# Altium schematic symbol library comm sub.SchLib: 89 symbols (part 2 of 4)
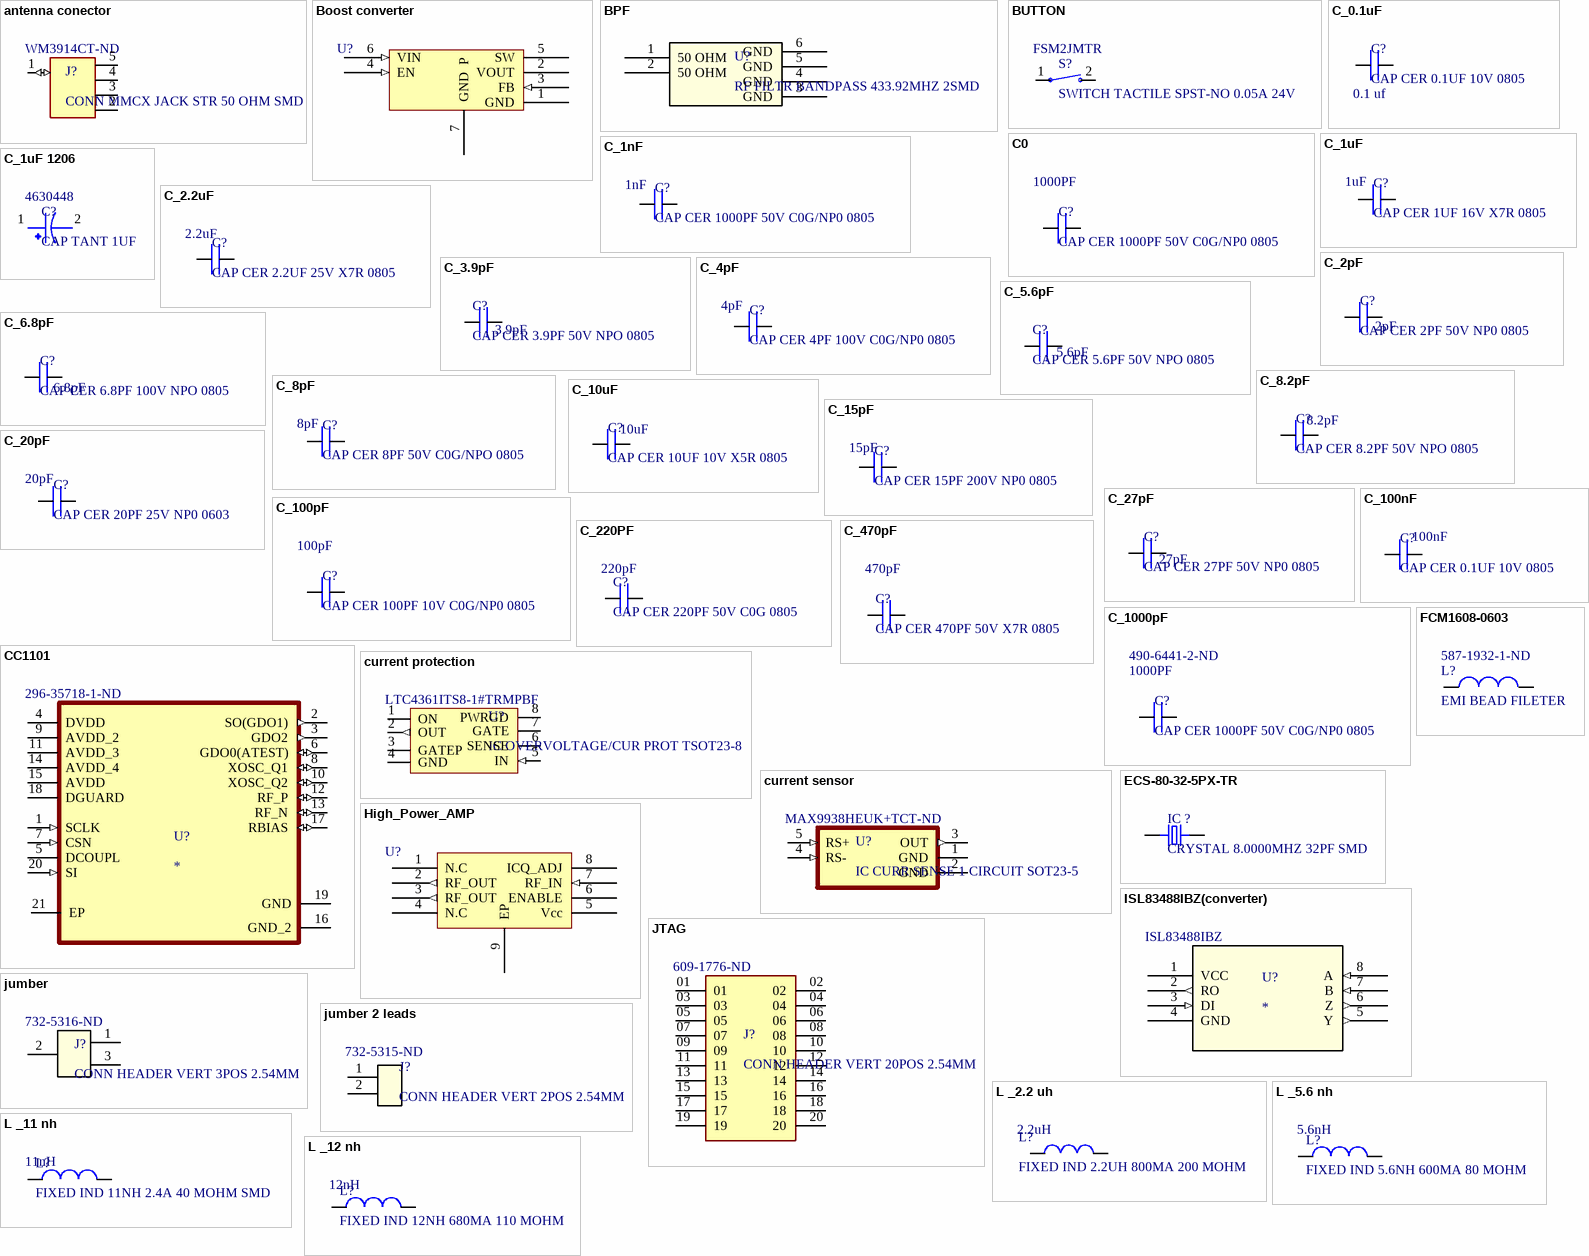
[diagram p3: symbols antenna conector to L _12 nh]

## jumber 2 leads
designator J?, comment CONN HEADER VERT 2POS 2.54MM  Supplier Part Number 1: 732-5315-ND
Connector Header Through Hole 2 position 0.100" (2.54mm); Manufacturer: Wurth Electronics; Manufacturer Part Number: 61300211121; Description: WURTH ELEKTRONIK - 61300211121 - Pin Header, Vertical, Board-to-Board, 2.54 mm, 1 Rows, 2 Contacts, Through Hole Straight; Current Rating: 3A; Voltage Rating: 250V; Number of Positions: 2; Gender: Male; Connector Type: Male Pin; Pitch: 0.1inch; Supplier 1: Digi-Key; RoHS: Yes; Stock 1: 60555; Pricing 1: 1 = 0.13000, 10 = 0.10600, 25 = 0.08800, 50 = 0.07400, 100 = 0.06700, 1000 = 0.06100 (USD); Mount: Through Hole; Contact Plating: Gold; Housing Material: PBT; Contact Material: Copper Alloy,Copper; Color: Black; Min Operating Temperature: -40°C; Max Operating Temperature: 125°C; Number of Rows: 1; Contact Gender: Male; Packaging: Bulk; Termination: Through Hole; Number of Contacts: 2; Contact Mating Length: 0.236inch; REACH SVHC: Unknown; Lead Free: Lead Free; ComponentLink1URL: https://datasheet.ciiva.com/13619/6130xx11121-48870-13619345.pdf?src-supplier=Mouser; ComponentLink1Description: https://datasheet.ciiva.com/13619/6130xx11121-48870-13619345.pdf?src-supplier=Mouser
footprint jumber 2
pins: 1, 2

## L _2.2 uh
designator L?, comment FIXED IND 2.2UH 800MA 200 MOHM  Inductance: 2.2uH
2.2µH Shielded Multilayer Inductor 800mA 200mOhm Max 0805 (2012 Metric); Manufacturer: Taiyo Yuden; Manufacturer Part Number: BRC2012T2R2MD; Core Material: Ferrite; Inductance Tolerance: 20%; Self Resonant Frequency: 350MHz; Current Rating: 1A; Saturation Current: 1.1A; Shielding: Unshielded; DC Resistance (DCR): 143mR; Test Frequency: 1MHz; ComponentLink1URL: https://datasheet.ciiva.com/6748/brc2012t2r2md-ss-6748784.pdf?src-supplier=Newark; ComponentLink1Description: https://datasheet.ciiva.com/6748/brc2012t2r2md-ss-6748784.pdf?src-supplier=Newark; ComponentLink2URL: https://datasheet.ciiva.com/25607/0900766b810b3c54-25607837.pdf?src-supplier=RSComponents; ComponentLink2Description: https://datasheet.ciiva.com/25607/0900766b810b3c54-25607837.pdf?src-supplier=RSComponents; ComponentLink3URL: https://datasheet.ciiva.com/26870/getdatasheetpartid-639072-26870958.pdf?src-supplier=Verical; ComponentLink3Description: https://datasheet.ciiva.com/26870/getdatasheetpartid-639072-26870958.pdf?src-supplier=Verical; ComponentLink4URL: https://datasheet.ciiva.com/1042/wound07-e-1042306.pdf?src-supplier=Digi-Key; ComponentLink4Description: https://datasheet.ciiva.com/1042/wound07-e-1042306.pdf?src-supplier=Digi-Key; ComponentLink5URL: https://datasheet.ciiva.com/1042/wound07-e-1042307.pdf?src-supplier=Digi-Key; ComponentLink5Description: https://datasheet.ciiva.com/1042/wound07-e-1042307.pdf?src-supplier=Digi-Key; ComponentLink6URL: https://datasheet.ciiva.com/1042/wound07-e-1042308.pdf?src-supplier=Digi-Key; ComponentLink6Description: https://datasheet.ciiva.com/1042/wound07-e-1042308.pdf?src-supplier=Digi-Key; Supplier 1: Digi-Key; RoHS: Yes; Stock 1: 117383; Pricing 1: 1 = 0.30000, 10 = 0.26800, 25 = 0.23440, 50 = 0.20100, 100 = 0.18420, 250 = 0.16752, 500 = 0.15744, 1000 = 0.12060 (USD); Mount: Surface Mount; Case/Package: 0805; Number of Pins: 2; Case Code (Metric): 2012; Case Code (Imperial): 0805; Min Operating Temperature: -40°C; Max Operating Temperature: 105°C; Packaging: Tape and Reel; Package Quantity: 2000; Tolerance: 20%; Resistor Type: Wirewound; Max DC Current: 1A; Termination: SMD/SMT; DC Current: 1A; Series: BRC; Length: 2mm; Width: 0.049inch; Height: 1.4mm; Height - Seated (Max): 0.055inch; Depth: 1.45mm; Lead Pitch: 1mm; Radiation Hardening: No; REACH SVHC: Unknown; Military Standard: Not; Lead Free: Lead Free; Halogen Free: Halogen Free; RoHS Compliant: Yes; Supplier Part Number 1: 587-2905-1-ND
footprint 0805 L
pins: 1    , 2

## L _5.6 nh
designator L?, comment FIXED IND 5.6NH 600MA 80 MOHM  Inductance: 5.6nH
5.6nH Unshielded Wirewound Inductor 600mA 80mOhm Max 0805 (2015 Metric); Manufacturer: Murata; Manufacturer Part Number: LQW2BAS5N6J00L; Core Material: Air; Tolerance: 5%; Self Resonant Frequency: 5.9GHz; DC Resistance (DCR): 80mR; Q Factor: 65; Test Frequency: 250MHz; ComponentLink1URL: https://datasheet.ciiva.com/29692/l0075e-29692413.pdf?src-supplier=Digi-Key; ComponentLink1Description: https://datasheet.ciiva.com/29692/l0075e-29692413.pdf?src-supplier=Digi-Key; ComponentLink2URL: https://datasheet.ciiva.com/3080/l0075s0080lqw2ba-3080326.pdf?src-supplier=Avnet; ComponentLink2Description: https://datasheet.ciiva.com/3080/l0075s0080lqw2ba-3080326.pdf?src-supplier=Avnet; ComponentLink3URL: https://datasheet.ciiva.com/1044/l0075s0080lqw2ba-1044700.pdf?src-supplier=Digi-Key; ComponentLink3Description: https://datasheet.ciiva.com/1044/l0075s0080lqw2ba-1044700.pdf?src-supplier=Digi-Key; ComponentLink4URL: https://datasheet.ciiva.com/1044/l0075s0080lqw2ba-1044701.pdf?src-supplier=Digi-Key; ComponentLink4Description: https://datasheet.ciiva.com/1044/l0075s0080lqw2ba-1044701.pdf?src-supplier=Digi-Key; ComponentLink5URL: https://datasheet.ciiva.com/1044/l0075s0080lqw2ba-1044702.pdf?src-supplier=Digi-Key; ComponentLink5Description: https://datasheet.ciiva.com/1044/l0075s0080lqw2ba-1044702.pdf?src-supplier=Digi-Key; Supplier 1: Mouser; RoHS: Yes; Stock 1: 2231; Pricing 1: 1 = 0.25000, 10 = 0.21100, 50 = 0.21100, 100 = 0.14600, 1000 = 0.09500, 10000 = 0.08300 (USD); Mount: Surface Mount; Case/Package: 0805; Weight: 0.000494oz; Case Code (Metric): 2015; Case Code (Imperial): 0806; Min Operating Temperature: -55°C; Max Operating Temperature: 125°C; Shielding: Unshielded; Packaging: Tape and Reel; Package Quantity: 2000; Current Rating: 600mA; Max DC Current: 600mA; Termination: SMD/SMT; Resistor Type: Wirewound; Series: LQW2BA; Length: 0.082inch; Width: 1.5mm; Height: 1.42mm; Height - Seated (Max): 0.06inch; Depth: 1.73mm; Radiation Hardening: No; RoHS Compliant: Yes; Supplier Part Number 1: 81-LQW2BAS5N6J00L
footprint 0805 L
pins: 1    , 2

## L _11 nh
designator L?, comment FIXED IND 11NH 2.4A 40 MOHM SMD  Inductance: 11nH
11nH Unshielded Wirewound Inductor 2.4A 40mOhm Max 0805 (2015 Metric); Manufacturer: Murata; Manufacturer Part Number: LQW2BAN11NJ00L; Core Material: Non-Magnetic; Tolerance: 5%; DC Resistance (DCR): 40mR; Self Resonant Frequency: 4.7GHz; Test Frequency: 250MHz; ComponentLink1URL: https://datasheet.ciiva.com/11799/0900766b8090d800-11799053.pdf?src-supplier=RSComponents; ComponentLink1Description: https://datasheet.ciiva.com/11799/0900766b8090d800-11799053.pdf?src-supplier=RSComponents; ComponentLink2URL: https://datasheet.ciiva.com/6705/l0075s0080lqw15a-00-6705340.pdf?src-supplier=Digi-Key; ComponentLink2Description: https://datasheet.ciiva.com/6705/l0075s0080lqw15a-00-6705340.pdf?src-supplier=Digi-Key; ComponentLink3URL: https://datasheet.ciiva.com/4976/product-4976333.pdf?src-supplier=Mouser; ComponentLink3Description: https://datasheet.ciiva.com/4976/product-4976333.pdf?src-supplier=Mouser; ComponentLink4URL: https://datasheet.ciiva.com/16455/l0075s0080lqw15a-00-16455917.pdf?src-supplier=Future+Electronics; ComponentLink4Description: https://datasheet.ciiva.com/16455/l0075s0080lqw15a-00-16455917.pdf?src-supplier=Future+Electronics; ComponentLink5URL: https://datasheet.ciiva.com/8508/l0075s0080lqw15a-00-8508748.pdf?src-supplier=Avnet; ComponentLink5Description: https://datasheet.ciiva.com/8508/l0075s0080lqw15a-00-8508748.pdf?src-supplier=Avnet; ComponentLink6URL: https://datasheet.ciiva.com/6705/l0075s0080lqw15a-00-6705343.pdf?src-supplier=Digi-Key; ComponentLink6Description: https://datasheet.ciiva.com/6705/l0075s0080lqw15a-00-6705343.pdf?src-supplier=Digi-Key; Supplier 1: Digi-Key; RoHS: Yes; Stock 1: 1300; Pricing 1: 1 = 0.46000, 10 = 0.40200, 25 = 0.37360, 50 = 0.31620, 100 = 0.28750, 250 = 0.27024, 500 = 0.24150, 1000 = 0.19550 (USD); Mount: Surface Mount; Case/Package: 0805; Min Operating Temperature: -55°C; Max Operating Temperature: 125°C; Resistor Type: Wirewound; Packaging: Cut Tape; Current Rating: 2.4A; Shielding: Unshielded; RoHS Compliant: Yes; ComponentLink7URL: http://search.murata.co.jp/Ceramy/image/img/P02/JELF243A-0115.pdf?src-supplier=Digi-Key; ComponentLink7Description: http://search.murata.co.jp/Ceramy/image/img/P02/JELF243A-0115.pdf?src-supplier=Digi-Key; Supplier Part Number 1: 490-16016-1-ND
footprint 0805 L
pins: 1    , 2

## L _12 nh
designator L?, comment FIXED IND 12NH 680MA 110 MOHM  Inductance: 12nH
12nH Unshielded Wirewound Inductor 680mA 110mOhm Max Nonstandard; Manufacturer: Murata; Manufacturer Part Number: LQW2BHN12NJ03L; Core Material: Non-Magnetic,Air; Tolerance: 5%; Self Resonant Frequency: 3.2GHz; Q Factor: 30; DC Resistance (DCR): 110mR; Test Frequency: 100MHz; ComponentLink1URL: https://datasheet.ciiva.com/11801/0900766b80f155f9-11801531.pdf?src-supplier=RSComponents; ComponentLink1Description: https://datasheet.ciiva.com/11801/0900766b80f155f9-11801531.pdf?src-supplier=RSComponents; ComponentLink2URL: https://datasheet.ciiva.com/8508/l0075s0081lqw2bh-03-8508521.pdf?src-supplier=Avnet; ComponentLink2Description: https://datasheet.ciiva.com/8508/l0075s0081lqw2bh-03-8508521.pdf?src-supplier=Avnet; ComponentLink3URL: https://datasheet.ciiva.com/14124/qilqw2bh-data-e-14124599.pdf?src-supplier=Distrelec; ComponentLink3Description: https://datasheet.ciiva.com/14124/qilqw2bh-data-e-14124599.pdf?src-supplier=Distrelec; Supplier 1: Digi-Key; RoHS: Yes; Stock 1: 18; Pricing 1: 1 = 0.44000, 10 = 0.39000, 25 = 0.34120, 50 = 0.29240, 100 = 0.26810, 250 = 0.24376, 500 = 0.22912, 1000 = 0.17550 (USD); Mount: Surface Mount; Case/Package: 0805; Weight: 0.000317oz; Case Code (Metric): 2012; Case Code (Imperial): 0805; Min Operating Temperature: -40°C; Max Operating Temperature: 85°C; Package Quantity: 2000; Packaging: Tape and Reel; Current Rating: 680mA; Shielding: Unshielded; Resistor Type: Wirewound; Max DC Current: 680mA; Termination: SMD/SMT; DC Current: 680mA; Series Resistance: 110mR; Series: LQW2BHN_03; Length: 0.079inch; Width: 0.059inch; Height: 1.7mm; Height - Seated (Max): 0.07inch; Depth: 1.7mm; Radiation Hardening: No; Military Standard: Not; RoHS Compliant: Yes; Supplier Part Number 1: 490-11780-1-ND
footprint 0805 L
pins: 1    , 2

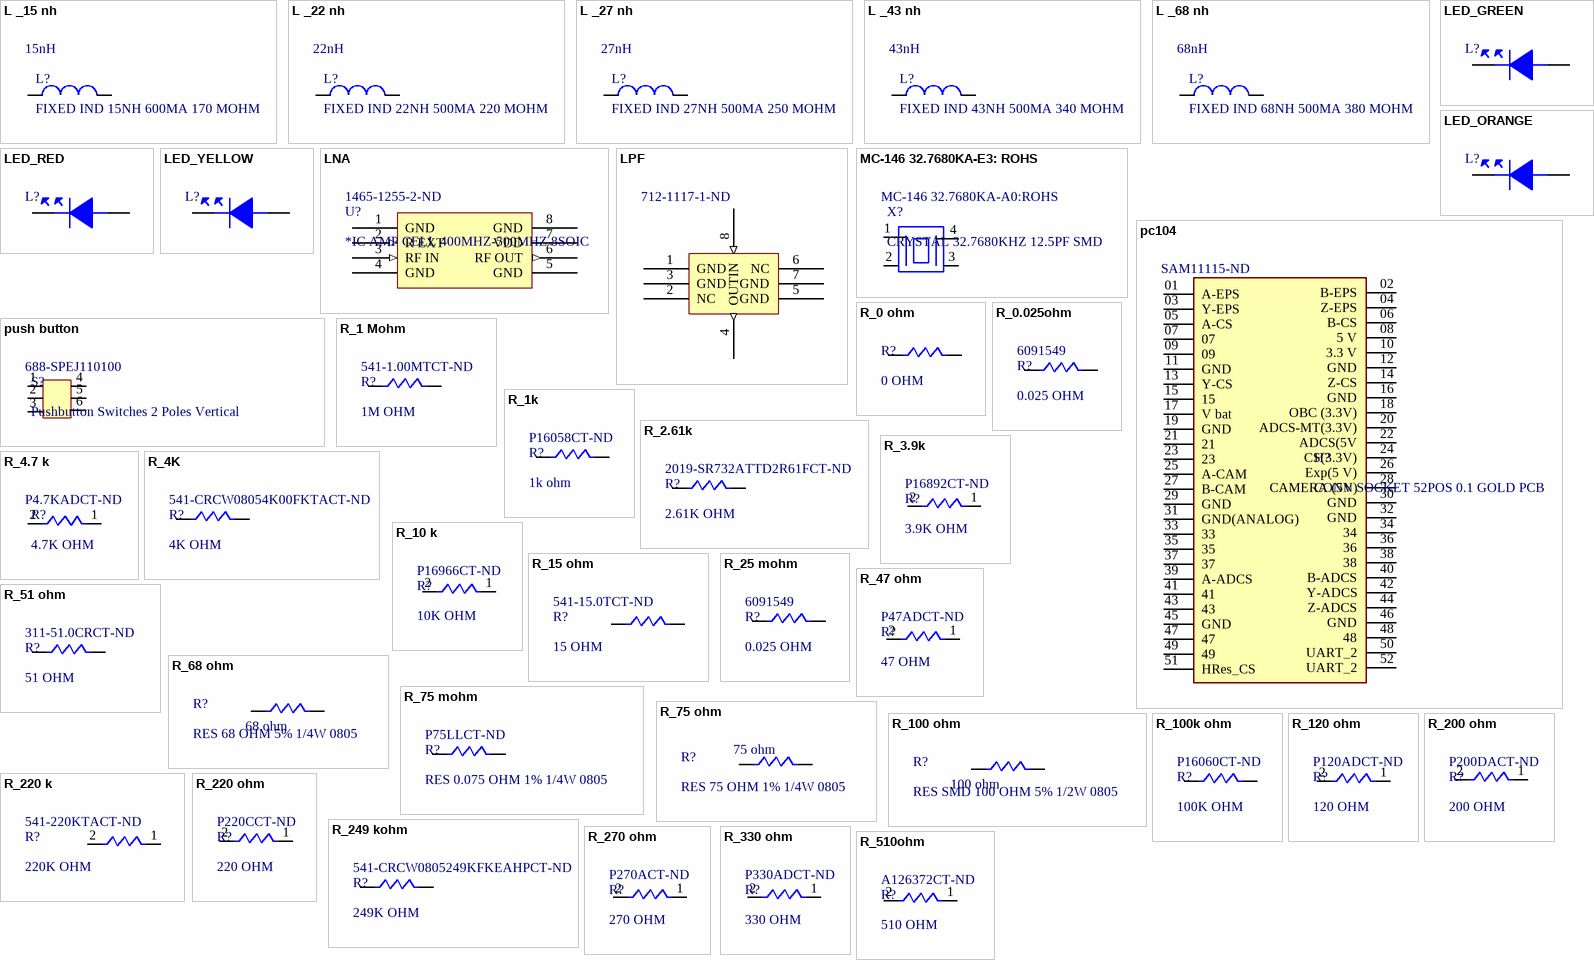
[diagram p1: symbols L _15 nh to R_510ohm]

## L _15 nh
designator L?, comment FIXED IND 15NH 600MA 170 MOHM  Inductance: 15nH
15nH Unshielded Wirewound Inductor 600mA 170mOhm Max 0805 (2015 Metric); Manufacturer: Murata; Manufacturer Part Number: LQW2BAS15NJ00L; Core Material: Air; Tolerance: 5%; Q Factor: 50; Self Resonant Frequency: 3.2GHz; DC Resistance (DCR): 170mR; Test Frequency: 250MHz; ComponentLink1URL: https://datasheet.ciiva.com/1044/l0075s0080lqw2ba-1044710.pdf?src-supplier=Digi-Key; ComponentLink1Description: https://datasheet.ciiva.com/1044/l0075s0080lqw2ba-1044710.pdf?src-supplier=Digi-Key; ComponentLink2URL: https://datasheet.ciiva.com/1044/l0075s0080lqw2ba-1044711.pdf?src-supplier=Digi-Key; ComponentLink2Description: https://datasheet.ciiva.com/1044/l0075s0080lqw2ba-1044711.pdf?src-supplier=Digi-Key; ComponentLink3URL: https://datasheet.ciiva.com/1044/l0075s0080lqw2ba-1044709.pdf?src-supplier=Digi-Key; ComponentLink3Description: https://datasheet.ciiva.com/1044/l0075s0080lqw2ba-1044709.pdf?src-supplier=Digi-Key; ComponentLink4URL: https://datasheet.ciiva.com/3080/l0075s0080lqw2ba-3080313.pdf?src-supplier=Avnet; ComponentLink4Description: https://datasheet.ciiva.com/3080/l0075s0080lqw2ba-3080313.pdf?src-supplier=Avnet; Supplier 1: Digi-Key; RoHS: Yes; Stock 1: 1878; Pricing 1: 1 = 0.23000, 10 = 0.20700, 25 = 0.18400, 50 = 0.15640, 100 = 0.13800, 250 = 0.12648, 500 = 0.11500, 1000 = 0.09660 (USD); Mount: Surface Mount; Case/Package: 0805; Weight: 0.000494oz; Case Code (Metric): 2015; Case Code (Imperial): 0806; Min Operating Temperature: -55°C; Max Operating Temperature: 125°C; Packaging: Tape and Reel; Shielding: Unshielded; Package Quantity: 2000; Current Rating: 600mA; Max DC Current: 600mA; Termination: SMD/SMT; Resistor Type: Wirewound; DC Current: 600mA; Inductance Tolerance: 5%; Series: LQW2BA; Length: 0.082inch; Width: 1.5mm; Height: 1.42mm; Height - Seated (Max): 0.06inch; Depth: 1.73mm; Radiation Hardening: No; Military Standard: Not; REACH SVHC: No SVHC; RoHS Compliant: Yes; Supplier Part Number 1: 490-5650-1-ND
footprint 0805 L
pins: 1    , 2

## L _22 nh
designator L?, comment FIXED IND 22NH 500MA 220 MOHM  Inductance: 22nH
22nH Unshielded Wirewound Inductor 500mA 220mOhm Max 0805 (2015 Metric); Manufacturer: Murata; Manufacturer Part Number: LQW2BAS22NG00L; Core Material: Non-Magnetic; Tolerance: 2%; DC Resistance (DCR): 220mR; Self Resonant Frequency: 2.6GHz; Test Frequency: 250MHz; ComponentLink1URL: https://datasheet.ciiva.com/24042/product-260769-24042693.pdf?src-supplier=Mouser; ComponentLink1Description: https://datasheet.ciiva.com/24042/product-260769-24042693.pdf?src-supplier=Mouser; ComponentLink2URL: https://datasheet.ciiva.com/29684/l0075e-29684012.pdf?src-supplier=Digi-Key; ComponentLink2Description: https://datasheet.ciiva.com/29684/l0075e-29684012.pdf?src-supplier=Digi-Key; ComponentLink3URL: https://datasheet.ciiva.com/29684/l0075e-29684013.pdf?src-supplier=Digi-Key; ComponentLink3Description: https://datasheet.ciiva.com/29684/l0075e-29684013.pdf?src-supplier=Digi-Key; ComponentLink4URL: https://datasheet.ciiva.com/29684/l0075e-29684062.pdf?src-supplier=Digi-Key; ComponentLink4Description: https://datasheet.ciiva.com/29684/l0075e-29684062.pdf?src-supplier=Digi-Key; Supplier 1: Digi-Key; RoHS: Yes; Stock 1: 5693; Pricing 1: 1 = 0.24000, 10 = 0.22000, 25 = 0.19600, 50 = 0.16660, 100 = 0.14700, 250 = 0.13476, 500 = 0.12250, 1000 = 0.10290 (USD); Mount: Surface Mount; Case/Package: 0805; Case Code (Imperial): 0805; Case Code (Metric): 2015; Min Operating Temperature: -55°C; Max Operating Temperature: 125°C; Resistor Type: Wirewound; Packaging: Tape and Reel; Current Rating: 500mA; Shielding: Unshielded; RoHS Compliant: Yes; ComponentLink5URL: https://search.murata.co.jp/Ceramy/image/img/P02/JELF243A-0084.pdf?src-supplier=Digi-Key; ComponentLink5Description: https://search.murata.co.jp/Ceramy/image/img/P02/JELF243A-0084.pdf?src-supplier=Digi-Key; ComponentLink6URL: https://search.murata.co.jp/Ceramy/image/img/P02/partnumbering_LQ3E.pdf?src-supplier=Digi-Key; ComponentLink6Description: https://search.murata.co.jp/Ceramy/image/img/P02/partnumbering_LQ3E.pdf?src-supplier=Digi-Key; Supplier Part Number 1: 490-16075-1-ND
footprint 0805 L
pins: 1    , 2

## L _27 nh
designator L?, comment FIXED IND 27NH 500MA 250 MOHM  Inductance: 27nH
27nH Unshielded Wirewound Inductor 500mA 250mOhm Max 0805 (2015 Metric); Manufacturer: Murata; Manufacturer Part Number: LQW2BAS27NJ00L; Core Material: Air,Non-Magnetic; Tolerance: 5%; Q Factor: 55; Self Resonant Frequency: 2.58GHz; DC Resistance (DCR): 250mR; Test Frequency: 250MHz; Supplier 1: Digi-Key; RoHS: Yes; Stock 1: 267; Pricing 1: 1 = 0.23000, 10 = 0.20700, 25 = 0.18400, 50 = 0.15640, 100 = 0.13800, 250 = 0.12648, 500 = 0.11500, 1000 = 0.09660 (USD); Mount: Surface Mount; Case/Package: 0805; Weight: 0.000494oz; Case Code (Metric): 2015; Case Code (Imperial): 0806; Min Operating Temperature: -55°C; Max Operating Temperature: 125°C; Packaging: Tape and Reel; Shielding: Unshielded; Package Quantity: 2000; Current Rating: 500mA; Max DC Current: 500mA; Termination: SMD/SMT; Resistor Type: Wirewound; DC Current: 500mA; Series: LQW; Length: 0.082inch; Width: 1.5mm; Height: 1.42mm; Height - Seated (Max): 0.06inch; Depth: 1.73mm; Radiation Hardening: No; Military Standard: Not; RoHS Compliant: Yes; ComponentLink1URL: https://datasheet.ciiva.com/1044/l0075s0080lqw2ba-1044712.pdf?src-supplier=Digi-Key; ComponentLink1Description: https://datasheet.ciiva.com/1044/l0075s0080lqw2ba-1044712.pdf?src-supplier=Digi-Key; ComponentLink2URL: https://datasheet.ciiva.com/1044/l0075s0080lqw2ba-1044713.pdf?src-supplier=Digi-Key; ComponentLink2Description: https://datasheet.ciiva.com/1044/l0075s0080lqw2ba-1044713.pdf?src-supplier=Digi-Key; ComponentLink3URL: https://datasheet.ciiva.com/1044/l0075s0080lqw2ba-1044714.pdf?src-supplier=Digi-Key; ComponentLink3Description: https://datasheet.ciiva.com/1044/l0075s0080lqw2ba-1044714.pdf?src-supplier=Digi-Key; ComponentLink4URL: https://datasheet.ciiva.com/3080/l0075s0080lqw2ba-3080317.pdf?src-supplier=Avnet; ComponentLink4Description: https://datasheet.ciiva.com/3080/l0075s0080lqw2ba-3080317.pdf?src-supplier=Avnet; Supplier Part Number 1: 490-5654-1-ND
footprint 0805 L
pins: 1    , 2

## L _43 nh
designator L?, comment FIXED IND 43NH 500MA 340 MOHM  Inductance: 43nH
43nH Unshielded Wirewound Inductor 500mA 340mOhm Max 0805 (2015 Metric); Manufacturer: Murata; Manufacturer Part Number: LQW2BAS43NJ00L; Core Material: Air; Tolerance: 5%; Self Resonant Frequency: 1.8GHz; Q Factor: 60; DC Resistance (DCR): 340mR; Test Frequency: 200MHz; ComponentLink1URL: https://datasheet.ciiva.com/1044/l0075s0080lqw2ba-1044720.pdf?src-supplier=Digi-Key; ComponentLink1Description: https://datasheet.ciiva.com/1044/l0075s0080lqw2ba-1044720.pdf?src-supplier=Digi-Key; ComponentLink2URL: https://datasheet.ciiva.com/1044/l0075s0080lqw2ba-1044718.pdf?src-supplier=Digi-Key; ComponentLink2Description: https://datasheet.ciiva.com/1044/l0075s0080lqw2ba-1044718.pdf?src-supplier=Digi-Key; ComponentLink3URL: https://datasheet.ciiva.com/1044/l0075s0080lqw2ba-1044719.pdf?src-supplier=Digi-Key; ComponentLink3Description: https://datasheet.ciiva.com/1044/l0075s0080lqw2ba-1044719.pdf?src-supplier=Digi-Key; ComponentLink4URL: https://datasheet.ciiva.com/3080/l0075s0080lqw2ba-3080323.pdf?src-supplier=Avnet; ComponentLink4Description: https://datasheet.ciiva.com/3080/l0075s0080lqw2ba-3080323.pdf?src-supplier=Avnet; Supplier 1: Digi-Key; RoHS: Yes; Stock 1: 168; Pricing 1: 1 = 0.44000, 10 = 0.38800, 25 = 0.33920, 50 = 0.29080, 100 = 0.26650, 250 = 0.24224, 500 = 0.22772, 1000 = 0.17442 (USD); Mount: Surface Mount; Case/Package: 0805; Weight: 0.000494oz; Case Code (Metric): 2015; Case Code (Imperial): 0805; Min Operating Temperature: -55°C; Max Operating Temperature: 125°C; Package Quantity: 2000; Current Rating: 500mA; Shielding: Unshielded; Packaging: Tape and Reel; Resistor Type: Wirewound; Max DC Current: 500mA; Termination: SMD/SMT; DC Current: 500mA; Series: LQW2BA; Length: 0.082inch; Width: 0.06inch; Height: 1.42mm; Height - Seated (Max): 0.06inch; Depth: 1.73mm; Radiation Hardening: No; Military Standard: Not; RoHS Compliant: Yes; Supplier Part Number 1: 490-5658-1-ND
footprint 0805 L
pins: 1    , 2

## L _68 nh
designator L?, comment FIXED IND 68NH 500MA 380 MOHM  Inductance: 68nH
68nH Unshielded Wirewound Inductor 500mA 380mOhm Max 0805 (2015 Metric); Manufacturer: Murata; Manufacturer Part Number: LQW2BAS68NJ00L; Core Material: Air,Non-Magnetic; Tolerance: 5%; Self Resonant Frequency: 1.5GHz; Q Factor: 60; DC Resistance (DCR): 380mR; Test Frequency: 200MHz; ComponentLink1URL: https://datasheet.ciiva.com/16448/l0075s0080lqw2ba-16448937.pdf?src-supplier=Future+Electronics; ComponentLink1Description: https://datasheet.ciiva.com/16448/l0075s0080lqw2ba-16448937.pdf?src-supplier=Future+Electronics; ComponentLink2URL: https://datasheet.ciiva.com/17278/l0075s0080lqw2ba-17278205.pdf?src-supplier=Avnet+Europe; ComponentLink2Description: https://datasheet.ciiva.com/17278/l0075s0080lqw2ba-17278205.pdf?src-supplier=Avnet+Europe; ComponentLink3URL: https://datasheet.ciiva.com/1044/l0075s0080lqw2ba-1044768.pdf?src-supplier=Digi-Key; ComponentLink3Description: https://datasheet.ciiva.com/1044/l0075s0080lqw2ba-1044768.pdf?src-supplier=Digi-Key; ComponentLink4URL: https://datasheet.ciiva.com/3080/l0075s0080lqw2ba-3080327.pdf?src-supplier=Avnet; ComponentLink4Description: https://datasheet.ciiva.com/3080/l0075s0080lqw2ba-3080327.pdf?src-supplier=Avnet; ComponentLink5URL: https://datasheet.ciiva.com/1044/l0075s0080lqw2ba-1044766.pdf?src-supplier=Digi-Key; ComponentLink5Description: https://datasheet.ciiva.com/1044/l0075s0080lqw2ba-1044766.pdf?src-supplier=Digi-Key; ComponentLink6URL: https://datasheet.ciiva.com/1044/l0075s0080lqw2ba-1044767.pdf?src-supplier=Digi-Key; ComponentLink6Description: https://datasheet.ciiva.com/1044/l0075s0080lqw2ba-1044767.pdf?src-supplier=Digi-Key; Supplier 1: Digi-Key; RoHS: Yes; Stock 1: 1656; Pricing 1: 1 = 0.23000, 10 = 0.20700, 25 = 0.18400, 50 = 0.15640, 100 = 0.13800, 250 = 0.12648, 500 = 0.11500, 1000 = 0.09660 (USD); Mount: Surface Mount; Case/Package: 0805; Weight: 0.000494oz; Case Code (Metric): 2015; Case Code (Imperial): 0805; Min Operating Temperature: -55°C; Max Operating Temperature: 125°C; Package Quantity: 2000; Current Rating: 500mA; Shielding: Unshielded; Packaging: Tape and Reel; Resistor Type: Wirewound; Max DC Current: 500mA; Termination: SMD/SMT; DC Current: 500mA; Series: LQW; Length: 0.082inch; Width: 0.06inch; Height: 1.42mm; Height - Seated (Max): 0.06inch; Depth: 1.73mm; Radiation Hardening: No; Military Standard: Not; Lead Free: Lead Free; RoHS Compliant: Yes; Supplier Part Number 1: 490-5661-1-ND
footprint 0805 L
pins: 1    , 2

## LED_GREEN
designator L?, comment LED GREEN CLEAR CHIP SMD R/A  (value not drawn)
Green 568nm LED Indication - Discrete 2V 0805 (2012 Metric); Manufacturer: Vishay Lite-On; Manufacturer Part Number: LTST-S220KGKT; Lens Color: Colorless; Viewing Angle: 130°; Luminous Intensity: 35mcd; Forward Current: 30mA; Lens Style: Diffused,Colorless,Rectangular,Clear; Power Rating: 75mW; Dominant Wavelength: 571nm; Test Current: 20mA; Number of Elements: 1; Wavelength: 574nm; Reverse Voltage: 5V; ComponentLink1Description: https://www.digikey.com/en/products/detail/lite-on-inc/LTST-C191KGKT/386835; ComponentLink1URL: https://www.digikey.com/en/products/detail/lite-on-inc/LTST-C191KGKT/386835; ComponentLink2Description: data sheet; ComponentLink2URL: https://optoelectronics.liteon.com/upload/download/DS22-2000-228/LTST-C191KGKT.PDF; Supplier 1: Digi-Key; RoHS: Yes; Stock 1: 90822; Pricing 1: 1 = 0.26000, 10 = 0.14200, 100 = 0.06600, 500 = 0.06090, 1000 = 0.04770, 2000 = 0.04669 (USD); Mount: Surface Mount; Case/Package: 0805; Number of Pins: 2; Color: Green; Case Code (Metric): 2012; Case Code (Imperial): 0805; Min Operating Temperature: -55°C; Max Operating Temperature: 85°C; Forward Voltage: 2V; Packaging: Tape and Reel; Package Quantity: 1; Illumination Color: Green; Lens Transparency: Clear; Power Dissipation: 75mW; Number of LEDs: 1; Length: 2.1mm; Width: 1mm; Height: 0.6mm; Depth: 0.6mm; Radiation Hardening: No; Lead Free: Lead Free; RoHS Compliant: Yes; ComponentLink3URL: https://datasheet.ciiva.com/11775/0900766b80dc0b70-11775441.pdf?src-supplier=RSComponents; ComponentLink3Description: https://datasheet.ciiva.com/11775/0900766b80dc0b70-11775441.pdf?src-supplier=RSComponents; ComponentLink4URL: https://datasheet.ciiva.com/12400/100-ltst-s220kgkt-59602-12400886.pdf?src-supplier=Mouser; ComponentLink4Description: https://datasheet.ciiva.com/12400/100-ltst-s220kgkt-59602-12400886.pdf?src-supplier=Mouser; ComponentLink5URL: https://datasheet.ciiva.com/2110/s-110-ltst-s220kgkt-2110069.pdf?src-supplier=Digi-Key; ComponentLink5Description: https://datasheet.ciiva.com/2110/s-110-ltst-s220kgkt-2110069.pdf?src-supplier=Digi-Key; ComponentLink6URL: https://datasheet.ciiva.com/2110/s-110-ltst-s220kgkt-2110070.pdf?src-supplier=Digi-Key; ComponentLink6Description: https://datasheet.ciiva.com/2110/s-110-ltst-s220kgkt-2110070.pdf?src-supplier=Digi-Key; ComponentLink7URL: https://datasheet.ciiva.com/2110/s-110-ltst-s220kgkt-2110071.pdf?src-supplier=Digi-Key; ComponentLink7Description: https://datasheet.ciiva.com/2110/s-110-ltst-s220kgkt-2110071.pdf?src-supplier=Digi-Key; ComponentLink8URL: https://datasheet.ciiva.com/16379/ltst-s220kgkt-16379082.pdf?src-supplier=Future+Electronics; ComponentLink8Description: https://datasheet.ciiva.com/16379/ltst-s220kgkt-16379082.pdf?src-supplier=Future+Electronics; Supplier Part Number 1: 160-1468-1-ND
footprint LED
pins: 1, 2

## LED_ORANGE
designator L?, comment LED ORANGE CLEAR SMD  (value not drawn)
Orange 605nm LED Indication - Discrete 2V 0805 (2012 Metric); Manufacturer: Vishay Lite-On; Manufacturer Part Number: LTST-C170KFKT; Lens Color: Colorless; Luminous Intensity: 60mcd; Forward Current: 30mA; Viewing Angle: 130°; Lens Style: Diffused,Colorless,Rectangular,Clear; Power Rating: 75mW; Test Current: 20mA; Number of Elements: 1; Wavelength: 611nm; Reverse Voltage: 5V; ComponentLink1Description: https://www.digikey.com/en/products/detail/lite-on-inc/LTST-C191KGKT/386835; ComponentLink1URL: https://www.digikey.com/en/products/detail/lite-on-inc/LTST-C191KGKT/386835; ComponentLink2Description: data sheet; ComponentLink2URL: https://optoelectronics.liteon.com/upload/download/DS22-2000-228/LTST-C191KGKT.PDF; ComponentLink3URL: https://datasheet.ciiva.com/2109/ltst-c191kfkt-2109968.pdf?src-supplier=Digi-Key; ComponentLink3Description: https://datasheet.ciiva.com/2109/ltst-c191kfkt-2109968.pdf?src-supplier=Digi-Key; ComponentLink4URL: https://datasheet.ciiva.com/12400/100-ltst-c191kfkt-39904-12400811.pdf?src-supplier=Mouser; ComponentLink4Description: https://datasheet.ciiva.com/12400/100-ltst-c191kfkt-39904-12400811.pdf?src-supplier=Mouser; ComponentLink5URL: https://datasheet.ciiva.com/11775/0900766b80dc02b0-11775613.pdf?src-supplier=RSComponents; ComponentLink5Description: https://datasheet.ciiva.com/11775/0900766b80dc02b0-11775613.pdf?src-supplier=RSComponents; ComponentLink6URL: https://datasheet.ciiva.com/15201/getdatasheetpartid-631075-15201391.pdf?src-supplier=Verical; ComponentLink6Description: https://datasheet.ciiva.com/15201/getdatasheetpartid-631075-15201391.pdf?src-supplier=Verical; ComponentLink7URL: https://datasheet.ciiva.com/2109/s-110-ltst-c191kfkt-2109969.pdf?src-supplier=Digi-Key; ComponentLink7Description: https://datasheet.ciiva.com/2109/s-110-ltst-c191kfkt-2109969.pdf?src-supplier=Digi-Key; Supplier 1: Digi-Key; RoHS: Yes; Stock 1: 7029; Pricing 1: 1 = 0.28000, 10 = 0.15000, 100 = 0.06990, 500 = 0.06450, 1000 = 0.05052 (USD); Mount: Surface Mount; Case/Package: 0805; Number of Pins: 2; Color: Orange; Case Code (Metric): 2012; Case Code (Imperial): 0805; Min Operating Temperature: -55°C; Max Operating Temperature: 85°C; Forward Voltage: 2V; Packaging: Tape and Reel; Package Quantity: 1; Illumination Color: Orange; Dominant Wavelength: 605nm; Lens Transparency: Clear; Power Dissipation: 75mW; Number of LEDs: 1; Length: 3.2mm; Width: 1.25mm; Height: 1.1mm; Depth: 1.6mm; Radiation Hardening: No; Lead Free: Lead Free; RoHS Compliant: Yes; ComponentLink8URL: https://datasheet.ciiva.com/15117/getdatasheetpartid-158266-15117926.pdf?src-supplier=Verical; ComponentLink8Description: https://datasheet.ciiva.com/15117/getdatasheetpartid-158266-15117926.pdf?src-supplier=Verical; ComponentLink9URL: https://datasheet.ciiva.com/11773/0900766b80dc0279-11773662.pdf?src-supplier=RSComponents; ComponentLink9Description: https://datasheet.ciiva.com/11773/0900766b80dc0279-11773662.pdf?src-supplier=RSComponents; ComponentLink10URL: https://datasheet.ciiva.com/12403/lite-on-ltst-c170kfkt-187690-12403821.pdf?src-supplier=Mouser; ComponentLink10Description: https://datasheet.ciiva.com/12403/lite-on-ltst-c170kfkt-187690-12403821.pdf?src-supplier=Mouser; ComponentLink11URL: https://datasheet.ciiva.com/2110/s-110-ltst-c170kfkt-2110076.pdf?src-supplier=Digi-Key; ComponentLink11Description: https://datasheet.ciiva.com/2110/s-110-ltst-c170kfkt-2110076.pdf?src-supplier=Digi-Key; ComponentLink12URL: https://datasheet.ciiva.com/2110/s-110-ltst-c170kfkt-2110077.pdf?src-supplier=Digi-Key; ComponentLink12Description: https://datasheet.ciiva.com/2110/s-110-ltst-c170kfkt-2110077.pdf?src-supplier=Digi-Key; ComponentLink13URL: https://datasheet.ciiva.com/2110/s-110-ltst-c170kfkt-2110075.pdf?src-supplier=Digi-Key; ComponentLink13Description: https://datasheet.ciiva.com/2110/s-110-ltst-c170kfkt-2110075.pdf?src-supplier=Digi-Key; ComponentLink14URL: https://datasheet.ciiva.com/16427/ltst-c170kfkt-16427484.pdf?src-supplier=Future+Electronics; ComponentLink14Description: https://datasheet.ciiva.com/16427/ltst-c170kfkt-16427484.pdf?src-supplier=Future+Electronics; Supplier Part Number 1: 160-1413-1-ND
footprint LED
pins: 1, 2

## LED_RED
designator L?, comment LED RED CLEAR SMD  (value not drawn)
Red 638nm LED Indication - Discrete 1.8V 0805 (2012 Metric); Manufacturer: Vishay Lite-On; Manufacturer Part Number: LTST-C170CKT; Lens Color: Colorless; Max Power Dissipation: 100mW; Forward Current: 40mA; Luminous Intensity: 10mcd; Viewing Angle: 130°; Lens Style: Diffused,Colorless,Rectangular,Clear; Test Current: 10mA; Number of Elements: 1; Wavelength: 660nm; Voltage: 5V; ComponentLink1Description: https://www.digikey.com/en/products/detail/lite-on-inc/LTST-C191KGKT/386835; ComponentLink1URL: https://www.digikey.com/en/products/detail/lite-on-inc/LTST-C191KGKT/386835; ComponentLink2Description: data sheet; ComponentLink2URL: https://optoelectronics.liteon.com/upload/download/DS22-2000-228/LTST-C191KGKT.PDF; ComponentLink3URL: https://datasheet.ciiva.com/11773/0900766b80dc02b2-11773601.pdf?src-supplier=RSComponents; ComponentLink3Description: https://datasheet.ciiva.com/11773/0900766b80dc02b2-11773601.pdf?src-supplier=RSComponents; ComponentLink4URL: https://datasheet.ciiva.com/16212/ltst-c191krkt-16212419.pdf?src-supplier=Future+Electronics; ComponentLink4Description: https://datasheet.ciiva.com/16212/ltst-c191krkt-16212419.pdf?src-supplier=Future+Electronics; ComponentLink5URL: https://datasheet.ciiva.com/15117/getdatasheetpartid-141922-15117737.pdf?src-supplier=Verical; ComponentLink5Description: https://datasheet.ciiva.com/15117/getdatasheetpartid-141922-15117737.pdf?src-supplier=Verical; ComponentLink6URL: https://datasheet.ciiva.com/12400/lite-on-ltst-c191krkt-190135-12400910.pdf?src-supplier=Mouser; ComponentLink6Description: https://datasheet.ciiva.com/12400/lite-on-ltst-c191krkt-190135-12400910.pdf?src-supplier=Mouser; ComponentLink7URL: https://datasheet.ciiva.com/2109/s-110-ltst-c191krkt-2109970.pdf?src-supplier=Digi-Key; ComponentLink7Description: https://datasheet.ciiva.com/2109/s-110-ltst-c191krkt-2109970.pdf?src-supplier=Digi-Key; ComponentLink8URL: https://datasheet.ciiva.com/2109/s-110-ltst-c191krkt-2109971.pdf?src-supplier=Digi-Key; ComponentLink8Description: https://datasheet.ciiva.com/2109/s-110-ltst-c191krkt-2109971.pdf?src-supplier=Digi-Key; ComponentLink9URL: https://datasheet.ciiva.com/2109/s-110-ltst-c191krkt-2109972.pdf?src-supplier=Digi-Key; ComponentLink9Description: https://datasheet.ciiva.com/2109/s-110-ltst-c191krkt-2109972.pdf?src-supplier=Digi-Key; Supplier 1: Digi-Key; RoHS: Yes; Stock 1: 26138; Pricing 1: 1 = 0.35000, 10 = 0.18800, 100 = 0.08740, 500 = 0.08070, 1000 = 0.06322 (USD); Mount: Surface Mount; Case/Package: 0805; Number of Pins: 2; Color: Red; Case Code (Metric): 2012; Case Code (Imperial): 0805; Min Operating Temperature: -55°C; Max Operating Temperature: 85°C; Packaging: Tape and Reel; Package Quantity: 1; Illumination Color: Red; Forward Voltage: 1.8V; Power Rating: 100mW; Lens Transparency: Clear; Dominant Wavelength: 638nm; Power Dissipation: 100mW; Number of LEDs: 1; Reverse Voltage: 5V; Series: -; Length: 2mm; Width: 1.25mm; Height: 1.1mm; Depth: 1.25mm; Radiation Hardening: No; Lead Free: Lead Free; RoHS Compliant: Yes; ComponentLink10URL: https://datasheet.ciiva.com/2110/ltst-c170ckt-2110087.pdf?src-supplier=Digi-Key; ComponentLink10Description: https://datasheet.ciiva.com/2110/ltst-c170ckt-2110087.pdf?src-supplier=Digi-Key; ComponentLink11URL: https://datasheet.ciiva.com/15117/getdatasheetpartid-121078-15117607.pdf?src-supplier=Verical; ComponentLink11Description: https://datasheet.ciiva.com/15117/getdatasheetpartid-121078-15117607.pdf?src-supplier=Verical; ComponentLink12URL: https://datasheet.ciiva.com/16199/lite-on20ltst-c170ckt-16199245.pdf?src-supplier=Future+Electronics; ComponentLink12Description: https://datasheet.ciiva.com/16199/lite-on20ltst-c170ckt-16199245.pdf?src-supplier=Future+Electronics; ComponentLink13URL: https://datasheet.ciiva.com/11775/0900766b80dc0276-11775646.pdf?src-supplier=RSComponents; ComponentLink13Description: https://datasheet.ciiva.com/11775/0900766b80dc0276-11775646.pdf?src-supplier=RSComponents; ComponentLink14URL: https://datasheet.ciiva.com/2110/ltst-c170ckt-2110088.pdf?src-supplier=Digi-Key; ComponentLink14Description: https://datasheet.ciiva.com/2110/ltst-c170ckt-2110088.pdf?src-supplier=Digi-Key; ComponentLink15URL: https://datasheet.ciiva.com/2110/ltst-c170ckt-2110089.pdf?src-supplier=Digi-Key; ComponentLink15Description: https://datasheet.ciiva.com/2110/ltst-c170ckt-2110089.pdf?src-supplier=Digi-Key; ComponentLink16URL: https://datasheet.ciiva.com/27051/1260306-27051787.pdf?src-supplier=Jameco; ComponentLink16Description: https://datasheet.ciiva.com/27051/1260306-27051787.pdf?src-supplier=Jameco; Supplier Part Number 1: 160-1176-1-ND
footprint LED
pins: 1, 2

## LED_YELLOW
designator L?, comment LED YELLOW CLEAR SMD  (value not drawn)
Yellow 591nm LED Indication - Discrete 2.1V 0805 (2012 Metric); Manufacturer: Vishay Lite-On; Manufacturer Part Number: LTST-C170KSKT; Lens Color: Colorless; Forward Voltage: 2.4V; Forward Current: 30mA; Viewing Angle: 130°; Lens Style: Diffused,Colorless,Rectangular,Clear; Test Current: 20mA; Number of LEDs: 1; Luminous Intensity: 112mcd; Power Rating: 75mW; Dominant Wavelength: 587nm; Wavelength: 588nm; Reverse Voltage: 5V; ComponentLink1URL: https://datasheet.ciiva.com/16213/lite-on20ltst-c191kskt-16213725.pdf?src-supplier=Future+Electronics; ComponentLink1Description: https://datasheet.ciiva.com/16213/lite-on20ltst-c191kskt-16213725.pdf?src-supplier=Future+Electronics; ComponentLink2URL: https://datasheet.ciiva.com/12400/lite-on-ltst-c191kskt-190097-12400797.pdf?src-supplier=Mouser; ComponentLink2Description: https://datasheet.ciiva.com/12400/lite-on-ltst-c191kskt-190097-12400797.pdf?src-supplier=Mouser; ComponentLink3URL: https://datasheet.ciiva.com/15117/getdatasheetpartid-141495-15117732.pdf?src-supplier=Verical; ComponentLink3Description: https://datasheet.ciiva.com/15117/getdatasheetpartid-141495-15117732.pdf?src-supplier=Verical; ComponentLink4URL: https://datasheet.ciiva.com/11773/0900766b80dc02b3-11773512.pdf?src-supplier=RSComponents; ComponentLink4Description: https://datasheet.ciiva.com/11773/0900766b80dc02b3-11773512.pdf?src-supplier=RSComponents; ComponentLink5URL: https://datasheet.ciiva.com/2109/s-110-ltst-c191kskt-2109984.pdf?src-supplier=Digi-Key; ComponentLink5Description: https://datasheet.ciiva.com/2109/s-110-ltst-c191kskt-2109984.pdf?src-supplier=Digi-Key; Supplier 1: Digi-Key; RoHS: Yes; Stock 1: 67488; Pricing 1: 1 = 0.31000, 10 = 0.16900, 100 = 0.07860, 500 = 0.07260, 1000 = 0.05687 (USD); Mount: Surface Mount; Case/Package: 0805; Number of Pins: 2; Color: Yellow; Case Code (Metric): 2012; Case Code (Imperial): 0805; Min Operating Temperature: -55°C; Max Operating Temperature: 85°C; Packaging: Tape and Reel; Package Quantity: 1; Illumination Color: Yellow; Series: CHIPLED 0805; Lens Transparency: Clear; Number of Elements: 1; Power Dissipation: 75mW; Length: 2mm; Width: 1.25mm; Height: 1.1mm; Depth: 1.25mm; Radiation Hardening: No; Lead Free: Lead Free; RoHS Compliant: Yes; ComponentLink6URL: https://datasheet.ciiva.com/15118/getdatasheetpartid-214541-15118098.pdf?src-supplier=Verical; ComponentLink6Description: https://datasheet.ciiva.com/15118/getdatasheetpartid-214541-15118098.pdf?src-supplier=Verical; ComponentLink7URL: https://datasheet.ciiva.com/11774/0900766b80dc027c-11774116.pdf?src-supplier=RSComponents; ComponentLink7Description: https://datasheet.ciiva.com/11774/0900766b80dc027c-11774116.pdf?src-supplier=RSComponents; ComponentLink8URL: https://datasheet.ciiva.com/16203/ltst-c170kskt-16203829.pdf?src-supplier=Future+Electronics; ComponentLink8Description: https://datasheet.ciiva.com/16203/ltst-c170kskt-16203829.pdf?src-supplier=Future+Electronics; ComponentLink9URL: https://datasheet.ciiva.com/12400/lite-on-ltst-c170kskt-187240-12400806.pdf?src-supplier=Mouser; ComponentLink9Description: https://datasheet.ciiva.com/12400/lite-on-ltst-c170kskt-187240-12400806.pdf?src-supplier=Mouser; ComponentLink10URL: https://datasheet.ciiva.com/2110/s-110-ltst-c170kskt-2110045.pdf?src-supplier=Digi-Key; ComponentLink10Description: https://datasheet.ciiva.com/2110/s-110-ltst-c170kskt-2110045.pdf?src-supplier=Digi-Key; ComponentLink11URL: https://datasheet.ciiva.com/2110/s-110-ltst-c170kskt-2110046.pdf?src-supplier=Digi-Key; ComponentLink11Description: https://datasheet.ciiva.com/2110/s-110-ltst-c170kskt-2110046.pdf?src-supplier=Digi-Key; ComponentLink12URL: https://datasheet.ciiva.com/2110/s-110-ltst-c170kskt-2110047.pdf?src-supplier=Digi-Key; ComponentLink12Description: https://datasheet.ciiva.com/2110/s-110-ltst-c170kskt-2110047.pdf?src-supplier=Digi-Key; Supplier Part Number 1: 160-1416-1-ND
footprint LED
pins: 1, 2

## LNA
designator U?, comment *IC AMP CELL 400MHZ-500MHZ 8SOIC  Supplier Part Number 1: 1465-1255-2-ND
RF Amplifier IC Cellular 400MHz ~ 500MHz 8-SOIC; Manufacturer: TE Connectivity MA-COM; Manufacturer Part Number: MAAL-008624-TR3000; P1dB: 16.5dBm; Gain: 21dB; Noise Figure: 0.9dB; Operating Supply Current: 80mA; Supplier 1: Digi-Key; RoHS: No; Case/Package: SOIC; Number of Pins: 8; Package Quantity: 3000; Packaging: Tape and Reel; Frequency: 500MHz; Series: -; RoHS Compliant: No; ComponentLink1URL: https://datasheet.ciiva.com/29648/maal-008624-29648695.pdf?src-supplier=Digi-Key; ComponentLink1Description: https://datasheet.ciiva.com/29648/maal-008624-29648695.pdf?src-supplier=Digi-Key; ComponentLink2URL: https://datasheet.ciiva.com/12181/maal-008624-38198-12181643.pdf?src-supplier=Mouser; ComponentLink2Description: https://datasheet.ciiva.com/12181/maal-008624-38198-12181643.pdf?src-supplier=Mouser
footprint LNA
pins: 1 GND (power), 2 R EXT (in), 3 RF IN (in), 4 GND (power), 5 GND (power), 6 RF OUT (out), 7 VDD (power), 8 GND (power)

## LPF
designator U?, comment Supplier Part Number 1: 712-1117-1-ND  (hidden comment: RF FILTER LOW PASS 500MHZ 0805)
500MHz Center Frequency Low Pass RF Filter (Radio Frequency) 500MHz Bandwidth 0.7dB 0805 (2012 Metric), 8 PC Pad; Manufacturer: Johanson; Manufacturer Part Number: 0500LP15A500E; Impedance: 50R; Supplier 1: Digi-Key; RoHS: Yes; Stock 1: 15427; Pricing 1: 1 = 0.83000, 10 = 0.79000, 25 = 0.76480, 50 = 0.62480, 100 = 0.56100, 250 = 0.53552 (USD); Mount: Surface Mount; Case/Package: 0805; Case Code (Metric): 2012; Case Code (Imperial): 0805; Min Operating Temperature: -40°C; Max Operating Temperature: 85°C; Termination: SMD/SMT; Insertion Loss: 0.7dB; Resistor Type: Ceramic; Frequency: 500MHz; Packaging: Tape and Reel; Package Quantity: 4000; Bandwidth: 500MHz; Length: 0.079inch; Width: 0.049inch; Height: 0.041inch; Radiation Hardening: No; ComponentLink1URL: https://datasheet.ciiva.com/24047/lp-filter-0500lp15a500-v2-258166-24047576.pdf?src-supplier=Mouser; ComponentLink1Description: https://datasheet.ciiva.com/24047/lp-filter-0500lp15a500-v2-258166-24047576.pdf?src-supplier=Mouser; ComponentLink2URL: https://datasheet.ciiva.com/1023/0500lp15a500-1023742.pdf?src-supplier=Digi-Key; ComponentLink2Description: https://datasheet.ciiva.com/1023/0500lp15a500-1023742.pdf?src-supplier=Digi-Key; ComponentLink3URL: https://datasheet.ciiva.com/3859/lp-filter-0500lp15a500-3859264.pdf?src-supplier=Arrow+Electronics; ComponentLink3Description: https://datasheet.ciiva.com/3859/lp-filter-0500lp15a500-3859264.pdf?src-supplier=Arrow+Electronics
footprint LPF
pins: 1 GND (power), 2 NC, 3 GND (power), 4 OUT (out), 5 GND (power), 6 NC, 7 GND (power), 8 IN (in)

## MC-146 32.7680KA-E3: ROHS
designator X?, comment CRYSTAL 32.7680KHZ 12.5PF SMD  Supplier Part Number 1: MC-146 32.7680KA-A0:ROHS
32.768kHz ±20ppm Crystal 12.5pF 65 kOhms 4-SMD, Flat Leads; Manufacturer: Epson; Manufacturer Part Number: MC-14632.7680KA-A0:ROHS; ESR (Equivalent Series Resistance): 65kR; Drive Level: 0.5uW; ComponentLink1URL: https://support.epson.biz/td/api/doc_check.php?dl=brief_MC-156_en.pdf&src-supplier=Digi-Key; ComponentLink1Description: https://support.epson.biz/td/api/doc_check.php?dl=brief_MC-156_en.pdf&src-supplier=Digi-Key; Supplier 1: Arrow Electronics; RoHS: Yes; Mount: Surface Mount; Case/Package: SMD/SMT; Number of Pins: 4; Weight: 0.002116oz; Min Operating Temperature: -40°C; Max Operating Temperature: 85°C; Frequency: 32.768kHz; Load Capacitance: 12.5pF; Packaging: Tape and Reel; Tolerance: 20ppm; Package Quantity: 1000; Termination: SMD/SMT; Frequency Stability: 20ppm; Frequency Tolerance: 20ppm; Series: MC-146; Length: 0.276inch; Width: 0.06inch; Height: 0.055inch; Depth: 6.7mm; RoHS Compliant: Yes; ComponentLink2URL: http://www.mouser.com/ds/2/137/1705461-465429.pdf?src-supplier=Mouser; ComponentLink2Description: http://www.mouser.com/ds/2/137/1705461-465429.pdf?src-supplier=Mouser; ComponentLink3URL: http://components.arrow.com/part/dataview/41973959S9069481N1318?src-supplier=Arrow+Electronics; ComponentLink3Description: http://components.arrow.com/part/dataview/41973959S9069481N1318?src-supplier=Arrow+Electronics; ComponentLink4URL: https://www5.epsondevice.com/en/information/support/pdf/june_2018_psc_masterbook.pdf?src-supplier=Digi-Key; ComponentLink4Description: https://www5.epsondevice.com/en/information/support/pdf/june_2018_psc_masterbook.pdf?src-supplier=Digi-Key; ComponentLink5URL: https://www5.epsondevice.com/en/information/support/pdf/pcs_master_book.pdf?src-supplier=Digi-Key; ComponentLink5Description: https://www5.epsondevice.com/en/information/support/pdf/pcs_master_book.pdf?src-supplier=Digi-Key
footprint CRYSTAL 32K
pins: 1, 2 GND, 3 GND, 4 3

## pc104
designator H?, comment CONN SOCKET 52POS 0.1 GOLD PCB  Supplier Part Number 1: SAM11115-ND
52 Position Elevated Socket Connector 0.100" (2.54mm) Through Hole Gold; Manufacturer: Samtec; Manufacturer Part Number: ESQ-126-49-G-D; Number of Contacts: 52; Gender: Female; Supplier 1: Digi-Key; RoHS: Yes; Stock 1: 53; Pricing 1: 1 = 14.06000, 10 = 12.78000, 100 = 10.86300, 500 = 9.26550, 1000 = 8.49870, 5000 = 8.30700 (USD); Mount: Through Hole; Contact Plating: Gold; Contact Material: Bronze; Number of Rows: 2; Packaging: Bulk; Termination: Solder; Pitch: 2.54mm; Radiation Hardening: No; RoHS Compliant: Yes; ComponentLink1URL: http://suddendocs.samtec.com/prints/esq-1xx-xx-x-x-xxx-xx-x-xx-mkt.pdf?src-supplier=Digi-Key; ComponentLink1Description: http://suddendocs.samtec.com/prints/esq-1xx-xx-x-x-xxx-xx-x-xx-mkt.pdf?src-supplier=Digi-Key; ComponentLink2URL: http://www.samtec.com/documents/webfiles/pdf/ESW_TH.PDF?src-supplier=Avnet+Europe; ComponentLink2Description: http://www.samtec.com/documents/webfiles/pdf/ESW_TH.PDF?src-supplier=Avnet+Europe; ComponentLink3URL: http://cloud.samtec.com/catalog_english/ESW_TH.PDF?src-supplier=Avnet; ComponentLink3Description: http://cloud.samtec.com/catalog_english/ESW_TH.PDF?src-supplier=Avnet
footprint pc104 (connector)
pins: 01 A-EPS, 02 B-EPS, 03 Y-EPS, 04 Z-EPS, 05 A-CS, 06 B-CS, 07, 08 5 V, 09, 10 3.3 V, 11 GND, 12 GND, 13 Y-CS, 14 Z-CS, 15, 16 GND, 17 V bat, 18 OBC (3.3V), 19 GND, 20 ADCS-MT(3.3V), 21, 22 ADCS(5V, 23, 24 CS(3.3V), 25 A-CAM, 26 Exp(5 V), 27 B-CAM, 28 CAMERA (5V), 29 GND, 30 GND, 31 GND(ANALOG), 32 GND, 33, 34, 35, 36, 37, 38, 39 A-ADCS, 40 B-ADCS, 41, 42 Y-ADCS, 43, 44 Z-ADCS, 45 GND, 46 GND, 47, 48, 49, 50 UART_2, 51 HRes_CS, 52 UART_2

## push button
designator S?, comment Pushbutton Switches 2 Poles Vertical  Supplier Part Number 1: 688-SPEJ110100
Pushbutton Switches 2 Poles Vertical .2A 14V 1.7mm Travel; Manufacturer: Alps Electric; Manufacturer Part Number: SPEJ110100; Mechanical Life: 10000Cycles; Current Rating: 200mA; Throw Configuration: DPDT; Contact Resistance: 150mR; Illumination Type: Illuminated; Actuator Length: 2.05mm; ComponentLink1Description: datasheet; ComponentLink1URL: https://eu.mouser.com/datasheet/2/15/SPEJ-1370905.pdf; Supplier 1: Mouser; RoHS: Yes; Stock 1: 202; Pricing 1: 1 = 2.45000, 10 = 2.45000, 50 = 2.06000, 100 = 2.02000, 1000 = 1.81000, 10000 = 1.81000 (USD); Mount: Surface Mount; Case/Package: SMD/SMT; Min Operating Temperature: -40°C; Max Operating Temperature: 85°C; Packaging: Tape and Reel; Voltage Rating (DC): 14V; Max Voltage Rating (DC): 14V; Orientation: Straight; Termination: Gull Wing; Radiation Hardening: No; ComponentLink2URL: https://datasheet.ciiva.com/16197/spej-16197423.pdf?src-supplier=Onlinecomponents.com; ComponentLink2Description: https://datasheet.ciiva.com/16197/spej-16197423.pdf?src-supplier=Onlinecomponents.com; ComponentLink3URL: https://datasheet.ciiva.com/18233/getdatasheetpartid-652615-18233247.pdf?src-supplier=Verical; ComponentLink3Description: https://datasheet.ciiva.com/18233/getdatasheetpartid-652615-18233247.pdf?src-supplier=Verical
footprint push button
pins: 1, 2, 3, 4, 5, 6

## R_0 ohm
designator R?, comment 0 OHM
0 Ohms Jumper 0.125W, 1/8W Chip Resistor 0805 (2012 Metric)  Thick Film; Manufacturer: Vishay; Manufacturer Part Number: CRCW08050000Z0EAC; Power Rating: 125mW; Resistance: 20R; ComponentLink1URL: http://www.vishay.com/docs/28773/crcwce3.pdf?src-supplier=Digi-Key; ComponentLink1Description: http://www.vishay.com/docs/28773/crcwce3.pdf?src-supplier=Digi-Key; Supplier 1: Digi-Key; RoHS: Yes; Stock 1: 101527; Pricing 1: 1 = 0.10000, 10 = 0.03500, 100 = 0.01420, 1000 = 0.00636, 2500 = 0.00552 (USD); Mount: Surface Mount; Case/Package: Molded; Contact Plating: Tin; Min Operating Temperature: -55°C; Max Operating Temperature: 155°C; Resistor Type: Thick Film; Termination: Wraparound; Length: 2mm; Lead Free: Lead Free; RoHS Compliant: Yes; Supplier Part Number 1: 541-4125-1-ND
footprint 0805 R
pins: 1, 2

## R_0.025ohm
designator R?, comment 0.025 OHM  Supplier Part Number 1: 6091549
25 mOhms ±1% 0.5W, 1/2W Chip Resistor 0805 (2012 Metric) Automotive AEC-Q200, Current Sense Thick Film; Manufacturer: Vishay; Manufacturer Part Number: CRCW08050000Z0EAC; RoHS: Yes; Mount: Surface Mount; Case/Package: Molded; ComponentLink1URL: http://www.mouser.com/ds/2/315/AOA0000C295-1109214.pdf?src-supplier=Mouser; ComponentLink1Description: http://www.mouser.com/ds/2/315/AOA0000C295-1109214.pdf?src-supplier=Mouser; ComponentLink2URL: http://www.farnell.com/datasheets/2244535.pdf?src-supplier=Farnell; ComponentLink2Description: http://www.farnell.com/datasheets/2244535.pdf?src-supplier=Farnell; ComponentLink3URL: https://industrial.panasonic.com/cdbs/www-data/pdf/RDN0000/AOA0000C313.pdf?src-supplier=Digi-Key; ComponentLink3Description: https://industrial.panasonic.com/cdbs/www-data/pdf/RDN0000/AOA0000C313.pdf?src-supplier=Digi-Key; ComponentLink4URL: http://www.farnell.com/datasheets/2244535.pdf?src-supplier=Newark; ComponentLink4Description: http://www.farnell.com/datasheets/2244535.pdf?src-supplier=Newark; ComponentLink5URL: http://www.farnell.com/datasheets/1951809.pdf?src-supplier=Element14; ComponentLink5Description: http://www.farnell.com/datasheets/1951809.pdf?src-supplier=Element14; Supplier 1: Future Electronics
footprint 0805 R
pins: 1, 2

## R_1 Mohm
designator R?, comment 1M OHM  Supplier Part Number 1: 541-1.00MTCT-ND
1 MOhms ±1% 0.5W, 1/2W Chip Resistor 0805 (2012 Metric) Automotive AEC-Q200, Pulse Withstanding Thick Film; Manufacturer: Vishay; Manufacturer Part Number: CRCW08050000Z0EAC; Power Rating: 125mW; Resistance: 20R; Voltage Rating: 150V; Max Power Dissipation: 333mW; Temperature Coefficient: 100ppm/°C; RoHS: Yes; Mount: Surface Mount; Case/Package: Molded; Contact Plating: Tin; Min Operating Temperature: -55°C; Max Operating Temperature: 155°C; Resistor Type: Thick Film; Termination: Wraparound; Length: 2mm; Lead Free: Lead Free; ComponentLink1URL: http://www.vishay.com/docs/28773/crcwce3.pdf?src-supplier=Digi-Key; ComponentLink1Description: http://www.vishay.com/docs/28773/crcwce3.pdf?src-supplier=Digi-Key; Supplier 1: Digi-Key; Stock 1: 21204; Pricing 1: 1 = 0.23000, 10 = 0.19300, 100 = 0.07530, 1000 = 0.03150, 2500 = 0.02888 (USD); Weight: 0.000194oz; Case Code (Metric): 2012; Case Code (Imperial): 0805; Package Quantity: 10; Tolerance: 1%; Packaging: Tape and Reel; Number of Terminations: 2; Features: Automotive AEC-Q200; Series: CRCW-HP; Width: 0.049inch; Height: 0.024inch; Radiation Hardening: No; RoHS Compliant: Yes; ComponentLink2URL: https://datasheet.ciiva.com/2475/crcwhpe3-2475641.pdf?src-supplier=Digi-Key; ComponentLink2Description: https://datasheet.ciiva.com/2475/crcwhpe3-2475641.pdf?src-supplier=Digi-Key; ComponentLink3URL: https://datasheet.ciiva.com/2475/crcwhpe3-2475642.pdf?src-supplier=Digi-Key; ComponentLink3Description: https://datasheet.ciiva.com/2475/crcwhpe3-2475642.pdf?src-supplier=Digi-Key; ComponentLink4URL: https://datasheet.ciiva.com/2475/crcwhpe3-2475643.pdf?src-supplier=Digi-Key; ComponentLink4Description: https://datasheet.ciiva.com/2475/crcwhpe3-2475643.pdf?src-supplier=Digi-Key; ComponentLink5URL: https://datasheet.ciiva.com/48527/crcwhpe3-48527597.pdf?src-supplier=Avnet; ComponentLink5Description: https://datasheet.ciiva.com/48527/crcwhpe3-48527597.pdf?src-supplier=Avnet; ComponentLink6URL: https://datasheet.ciiva.com/5545/crcwhpe3-46056-5545486.pdf?src-supplier=Mouser; ComponentLink6Description: https://datasheet.ciiva.com/5545/crcwhpe3-46056-5545486.pdf?src-supplier=Mouser; ComponentLink7URL: https://datasheet.ciiva.com/9112/crcwhpe3-9112399.pdf?src-supplier=Avnet; ComponentLink7Description: https://datasheet.ciiva.com/9112/crcwhpe3-9112399.pdf?src-supplier=Avnet
footprint 0805 R
pins: 1, 2